# EAGLE library part LMV324 (library misc)
LMV3xx Low-Voltage Rail-to-Rail Output Operational Amplifier
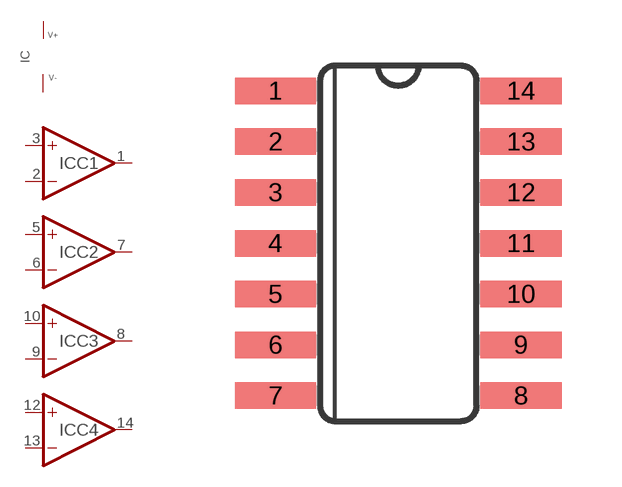
[diagram p59: symbol with the pads of SOIC14; footprint SOIC14]

Designator prefix IC; gates C1=OPAMP C2=OPAMP C3=OPAMP C4=OPAMP G$5=PWR+-

## LMV324-SOIC (MANF: Texas Instruments; MANF#: LMV324IDR)  [SOIC14]
1  C1:OUT  out
2  C1:IN-  in
3  C1:IN+  in
4  G$5:V+  pwr
5  C2:IN+  in
6  C2:IN-  in
7  C2:OUT  out
8  C3:OUT  out
9  C3:IN-  in
10  C3:IN+  in
11  G$5:V-  pwr
12  C4:IN+  in
13  C4:IN-  in
14  C4:OUT  out

## Footprint SOIC14 (pad centres in mm)
3D model <http://grabcad.com/library/106x-soic-packages-small-outline-integrated-circuit-1/details?folder_id=13776991>
smd 2.032 x 0.66: 1 -3.073,3.82; 2 -3.073,2.55; 3 -3.073,1.28; 4 -3.073,0.01; 5 -3.073,-1.26; 6 -3.073,-2.53; 7 -3.073,-3.8; 8 3.073,-3.8; 9 3.073,-2.53; 10 3.073,-1.26; 11 3.073,0.01; 12 3.073,1.28; 13 3.073,2.55; 14 3.073,3.82